# EAGLE library part NIXIE_MODULE (library nixie_tube)
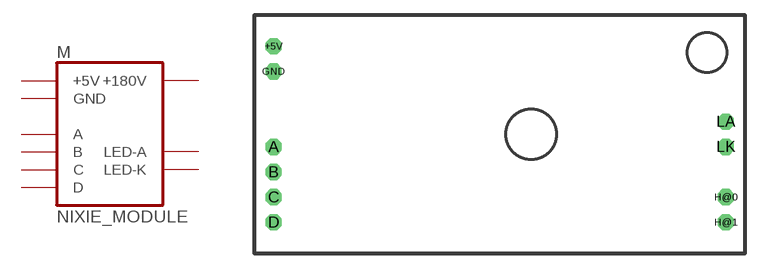
[diagram p4: symbol with the pads of NIXIE_MODULE; footprint NIXIE_MODULE]

Designator prefix M

## NIXIE_MODULE  [NIXIE_MODULE]
+5V  +5V  pwr
A  A  in
B  B  in
C  C  in
D  D  in
GND  GND  pwr
H@0  +180V  pwr
H@1  +180V  pwr
LA  LED-A
LK  LED-K

## Footprint NIXIE_MODULE (pad centres in mm)
drill 1.1 octagon: +5V -26.035,8.89; A -26.035,-1.27; B -26.035,-3.81; C -26.035,-6.35; D -26.035,-8.89; GND -26.035,6.35; H@0 19.685,-6.35; H@1 19.685,-8.89; LA 19.685,1.27; LK 19.685,-1.27